# EAGLE library part BAT54SDW (library IntegratedLib)
Arranjo de Diodos Shottky em série (SOT-363)
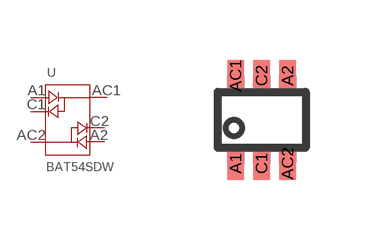
[diagram p22: symbol with the pads of SOT-363; footprint SOT-363]

Designator prefix U

## BAT54SDW (FABRICANTE: DIODES INCORPORATED; PARTNUMBER: BAT54SDW; TIPO: CIRCUITO INTEGRADO)  [SOT-363]
A1  A1
A2  A2
AC1  AC1
AC2  AC2
C1  C1
C2  C2

## Footprint SOT-363 (pad centres in mm)
smd 0.42 x 0.8: A1 -0.65,-1.1; A2 0.65,1.1; AC1 -0.65,1.1; AC2 0.65,-1.1; C1 0,-1.1; C2 0,1.1